# EAGLE library part CRODUINO_DAMBA (library e-radionica_E-R MADE)
SKU: 100071 v2 Croduino Damba is our, so far, smallest Croduino/Arduino compatible board. With dimensions 22 x 26 mm, it fits any pocket and can be easily hidden. Since it contains CR1220 battery, it is portable and can work „on the go“. It is based on attiny85 microcontroller that is adjusted to work on Arduino code and allows You about 6.5kB of space for Your code. Nevertheless, for programming this microcontroller board You will need Croduino Basic. Programming itself is simple since there is a connection on the Damba that You just plug in into the Basic and You are ready for setting up You code. Detailed list of possibilities and features of Croduino Damba: -Dimensions 22 x 26mm Dimensions 22 x 26mm -With attiny85 microcontroller that provides 6 digital outputs, 2 of them are PWM, 4 analog entrances, a possibility of SPI or I2C communication -Internal oscillator frequency 1MHz or 8MHz, a possibility of connecting external oscillator frequency 20MHz -Works on 2.7V to 5.5V -On the back is housing for the CR1220 battery that makes Damba transitive -Orange LED light on the D0 code -Simple programming by connecting to the Basic -6.5kB for Arduino code, 0.5kB SRAM, 0.5 EEPROM -Made in Croatia
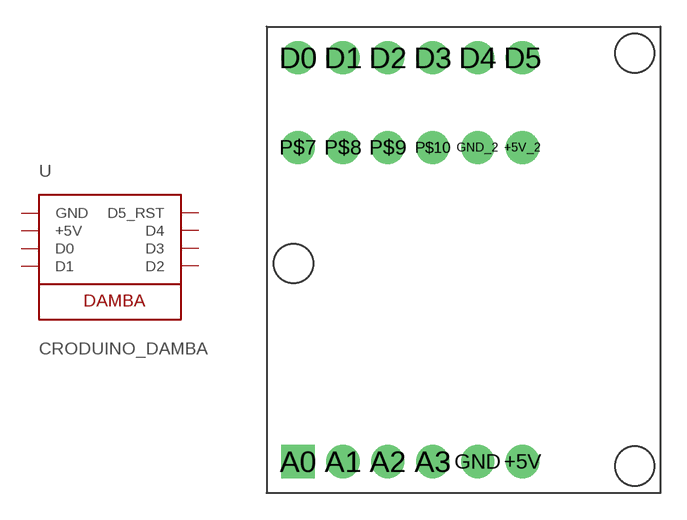
[diagram p1: symbol with the pads of CRODUINO_DAMBA; footprint CRODUINO_DAMBA]

Designator prefix -

## CRODUINO_DAMBA  [CRODUINO_DAMBA]
+5V  +5V  sup
+5V_2  +5V  sup
A0  D5_RST
A1  D2
A2  D4
A3  D3
D0  D0
D1  D1
D2  D2
D3  D3
D4  D4
D5  D5_RST
GND  GND  sup
GND_2  GND  sup
P$7  D2
P$8  D1
P$9  D0
P$10  D5_RST

## Footprint CRODUINO_DAMBA (pad centres in mm)
drill 1.016 pad 1.88: +5V 14.478,1.778; +5V_2 14.478,19.558; A1 4.318,1.778; A2 6.858,1.778; A3 9.398,1.778; D0 1.778,24.638; D1 4.318,24.638; D2 6.858,24.638; D3 9.398,24.638; D4 11.938,24.638; D5 14.478,24.638; GND 11.938,1.778; GND_2 11.938,19.558; P$7 1.778,19.558; P$8 4.318,19.558; P$9 6.858,19.558; P$10 9.398,19.558
drill 1.016 pad 1.88 square: A0 1.778,1.778